# Altium footprint library 000169(Quick_Fire_TK_USBC).PcbLib: 4 footprints
Each footprint in its own frame and in the unit in brackets; x right, y up, seen from the top. Pads: shape width x height; smd on the part's side, far side on the other; paste and mask are expansions set on the pad; w line width, h text height; cw(c..) or ccw(c..) is an arc to the next point about the centre after c.
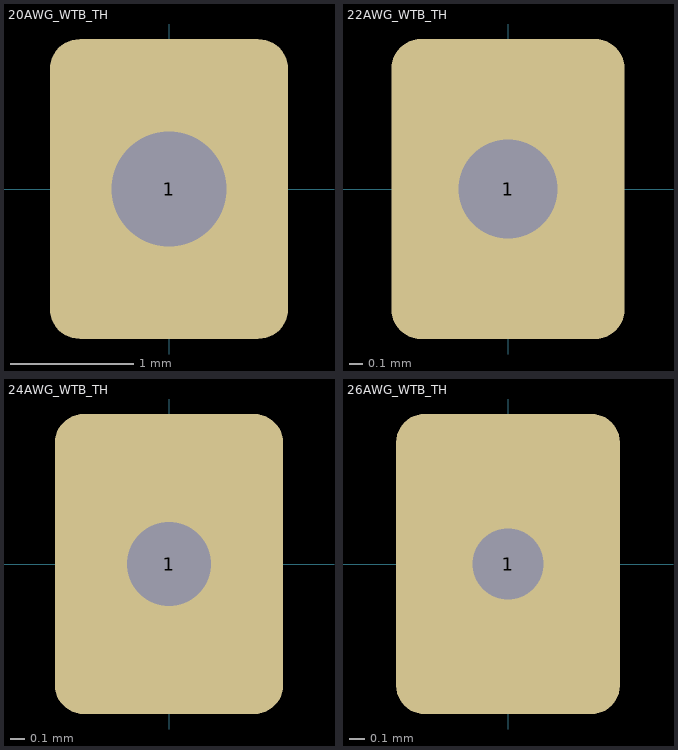
[diagram p0: the footprints below, top view; thin cyan lines are the x and y axes]

## 20AWG_WTB_TH [mm] "20AWG Wire to Board Through Hole / Hole Diameter is 15% larger than conductor diameter"
pads (1):
  rrect25% 1.934x2.434 hole 0.934 paste-2539.97: 1(0,0)

## 22AWG_WTB_TH [mm] "22AWG Wire to Board Through Hole / Hole Diameter is 15% larger than conductor diameter"
pads (1):
  rrect25% 1.74x2.24 hole 0.74 paste-2539.97: 1(0,0)

## 24AWG_WTB_TH [mm] "24AWG Wire to Board Through Hole / Hole Diameter is 15% larger than conductor diameter"
pads (1):
  rrect25% 1.587x2.087 hole 0.587 paste-2539.97: 1(0,0)

## 26AWG_WTB_TH [mm] "26AWG Wire to Board Through Hole / Hole Diameter is 15% larger than conductor diameter"
pads (1):
  rrect25% 1.466x1.966 hole 0.466 paste-2539.97: 1(0,0)